# EAGLE library part REGULATOR-L78XX (library p.peter-regulators)
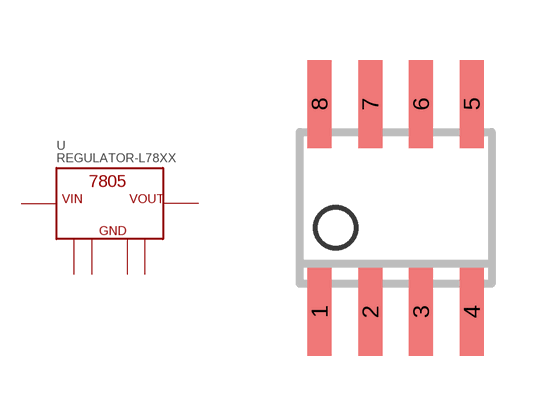
[diagram p1: symbol with the pads of SO8; footprint SO8]

Designator prefix -

## REGULATOR-L78XXSO-8  [SO8]
1  VOUT  out
2  GND1  pwr
3  GND2  pwr
6  GND3  pwr
7  GND4  pwr
8  VIN  in

## Footprint SO8 (pad centres in mm)
SMALL OUTLINE INTEGRATED CIRCUIT
smd 0.6 x 2.2: 1 -1.905,-2.6; 2 -0.635,-2.6; 3 0.635,-2.6; 4 1.905,-2.6; 5 1.905,2.6; 6 0.635,2.6; 7 -0.635,2.6; 8 -1.905,2.6